# Altium schematic symbol library SCH - DIODES - SCHOTTKY.SCHLIB: 1 symbol
Pins are listed as number, name and electrical type; pins without a type are passive.

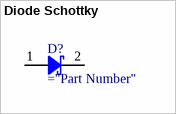
[diagram p0: symbol Diode Schottky]

## Diode Schottky
designator D?
Diode Schottky
pins: 1, 2